# Altium footprint library TO-92L.PcbLib: 1 footprints
Each footprint in its own frame and in the unit in brackets; x right, y up, seen from the top. Pads: shape width x height; smd on the part's side, far side on the other; paste and mask are expansions set on the pad; w line width, h text height; cw(c..) or ccw(c..) is an arc to the next point about the centre after c.
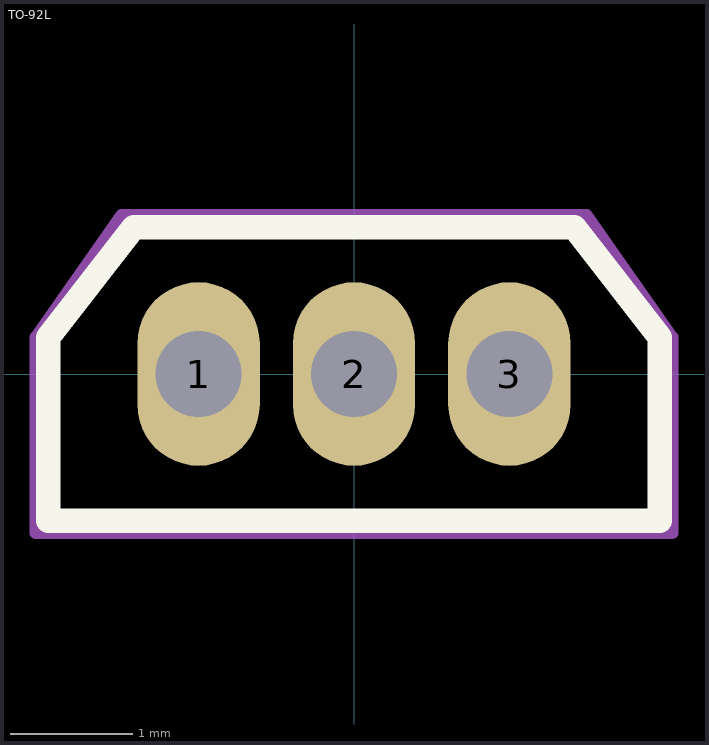
[diagram p0: the footprint, top view; thin cyan lines are the x and y axes]

## TO-92L [mm]
pads (3):
  oval 1x1.5 hole 0.7 mask+0.051: 1(-1.27,0) 2(0,0) 3(1.27,0)
Top Overlay:
  lines w0.2: -2.5,-1.2 -2.5,0.3 -1.8,1.2 1.8,1.2 2.5,0.3 2.5,-1.2 -2.5,-1.2
Mechanical 13:
  lines w0.1: -2.6,-1.3 2.6,-1.3 2.6,0.3 1.9,1.3 -1.9,1.3 -2.6,0.3 -2.6,-1.3